# EAGLE library part LTC2990 (library droidcycle)
Quad I2C Voltage, Current and Temperature Monitor The LTC®2990 is used to monitor system temperatures, voltages and currents. Through the I2C serial interface, the device can be configured to measure many combi- nations of internal temperature, remote temperature, remote voltage, remote current and internal VCC. The internal 10ppm/°C reference minimizes the number of supporting components and area required. Selectable address and configurable functionality give the LTC2990 flexibility to be incorporated in various systems needing temperature, voltage or current data. The LTC2990 fits well in systems needing sub-millivolt voltage resolution, 1% current measurement and 1°C temperature accuracy or any combination of the three.
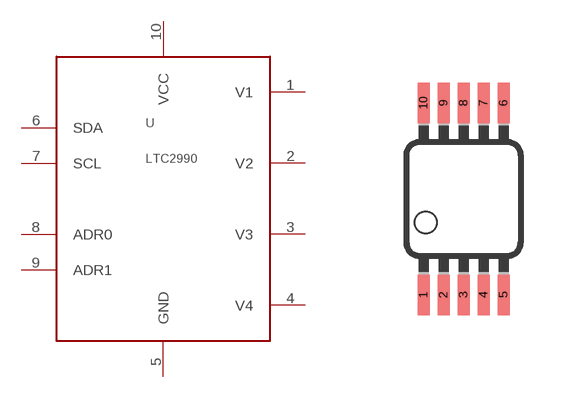
[diagram p0: symbol with the pads of MSOP10; footprint MSOP10]

Designator prefix -

## LTC2990  [MSOP10]
1  V1  in
2  V2  in
3  V3  in
4  V4  in
5  GND  sup
6  SDA
7  SCL
8  ADR0  in
9  ADR1  in
10  VCC  sup

## Footprint MSOP10 (pad centres in mm)
10MSOP package copied from linear.lbr
smd 0.3 x 1.02: 1 -1,-2.4; 2 -0.5,-2.4; 3 0,-2.4; 4 0.5,-2.4; 5 1,-2.4; 6 1,2.4; 7 0.5,2.4; 8 0,2.4; 9 -0.5,2.4; 10 -1,2.4